# EAGLE library part ATX24 (library openpcr)
Mini FIT connector 24 pol Source: http://www.molex.com
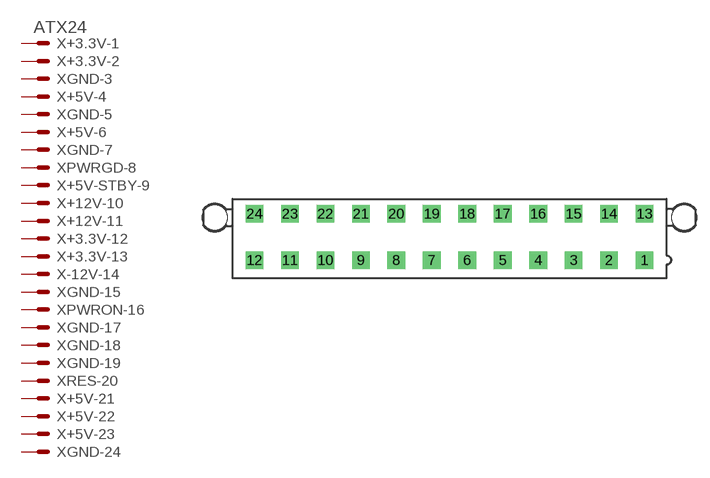
[diagram p1: symbol with the pads of ATX24; footprint ATX24]

Designator prefix X; gates +3.3V-1=MV +3.3V-2=M GND-3=M +5V-4=M GND-5=M +5V-6=M GND-7=M PWRGD-8=M +5V-STBY-9=M +12V-10=M +12V-11=M +3.3V-12=M +3.3V-13=M -12V-14=M GND-15=M PWRON-16=M GND-17=M GND-18=M GND-19=M RES-20=M +5V-21=M +5V-22=M +5V-23=M GND-24=M

## ATX24 (OC_FARNELL: unknown; OC_NEWARK: unknown)  [ATX24]
1  +3.3V-1:S  pas
2  +3.3V-2:S  pas
3  GND-3:S  pas
4  +5V-4:S  pas
5  GND-5:S  pas
6  +5V-6:S  pas
7  GND-7:S  pas
8  PWRGD-8:S  pas
9  +5V-STBY-9:S  pas
10  +12V-10:S  pas
11  +12V-11:S  pas
12  +3.3V-12:S  pas
13  +3.3V-13:S  pas
14  -12V-14:S  pas
15  GND-15:S  pas
16  PWRON-16:S  pas
17  GND-17:S  pas
18  GND-18:S  pas
19  GND-19:S  pas
20  RES-20:S  pas
21  +5V-21:S  pas
22  +5V-22:S  pas
23  +5V-23:S  pas
24  GND-24:S  pas

## Footprint ATX24 (pad centres in mm)
Mini FIT connector 24 pol Source: http://www.molex.com
drill 1.4 square: 1 23.1,-2.75; 2 18.9,-2.75; 3 14.7,-2.75; 4 10.5,-2.75; 5 6.3,-2.75; 6 2.1,-2.75; 7 -2.1,-2.75; 8 -6.3,-2.75; 9 -10.5,-2.75; 10 -14.7,-2.75; 11 -18.9,-2.75; 12 -23.1,-2.75; 13 23.1,2.75; 14 18.9,2.75; 15 14.7,2.75; 16 10.5,2.75; 17 6.3,2.75; 18 2.1,2.75; 19 -2.1,2.75; 20 -6.3,2.75; 21 -10.5,2.75; 22 -14.7,2.75; 23 -18.9,2.75; 24 -23.1,2.75
hole 3 at 27.8,2.29
hole 3 at -27.8,2.29